# EAGLE library part SRDA3.3-6 (library Traficon)
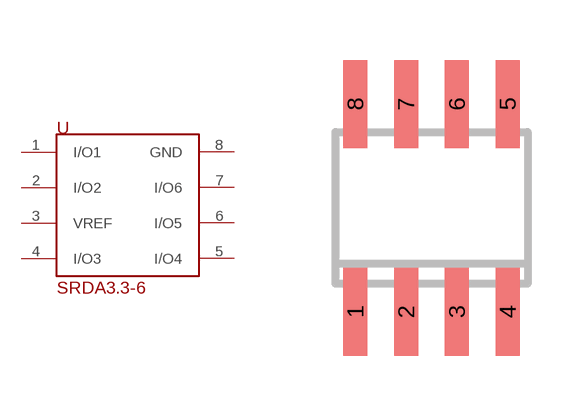
[diagram p249: symbol with the pads of SO08; footprint SO08]

Designator prefix U

## SRDA3.3-6  [SO08]
1  I/O1
2  I/O2
3  VREF
4  I/O3
5  I/O4
6  I/O5
7  I/O6
8  GND

## Footprint SO08 (pad centres in mm)
SMALL OUTLINE INTEGRATED CIRCUIT body 3.9 mm/JEDEC MS-012AA
smd 0.6 x 2.2: 1 -1.905,-2.6; 2 -0.635,-2.6; 3 0.635,-2.6; 4 1.905,-2.6; 5 1.905,2.6; 6 0.635,2.6; 7 -0.635,2.6; 8 -1.905,2.6